# EAGLE library part MOD_CM5 (library !GPLIB_ACTIVE)
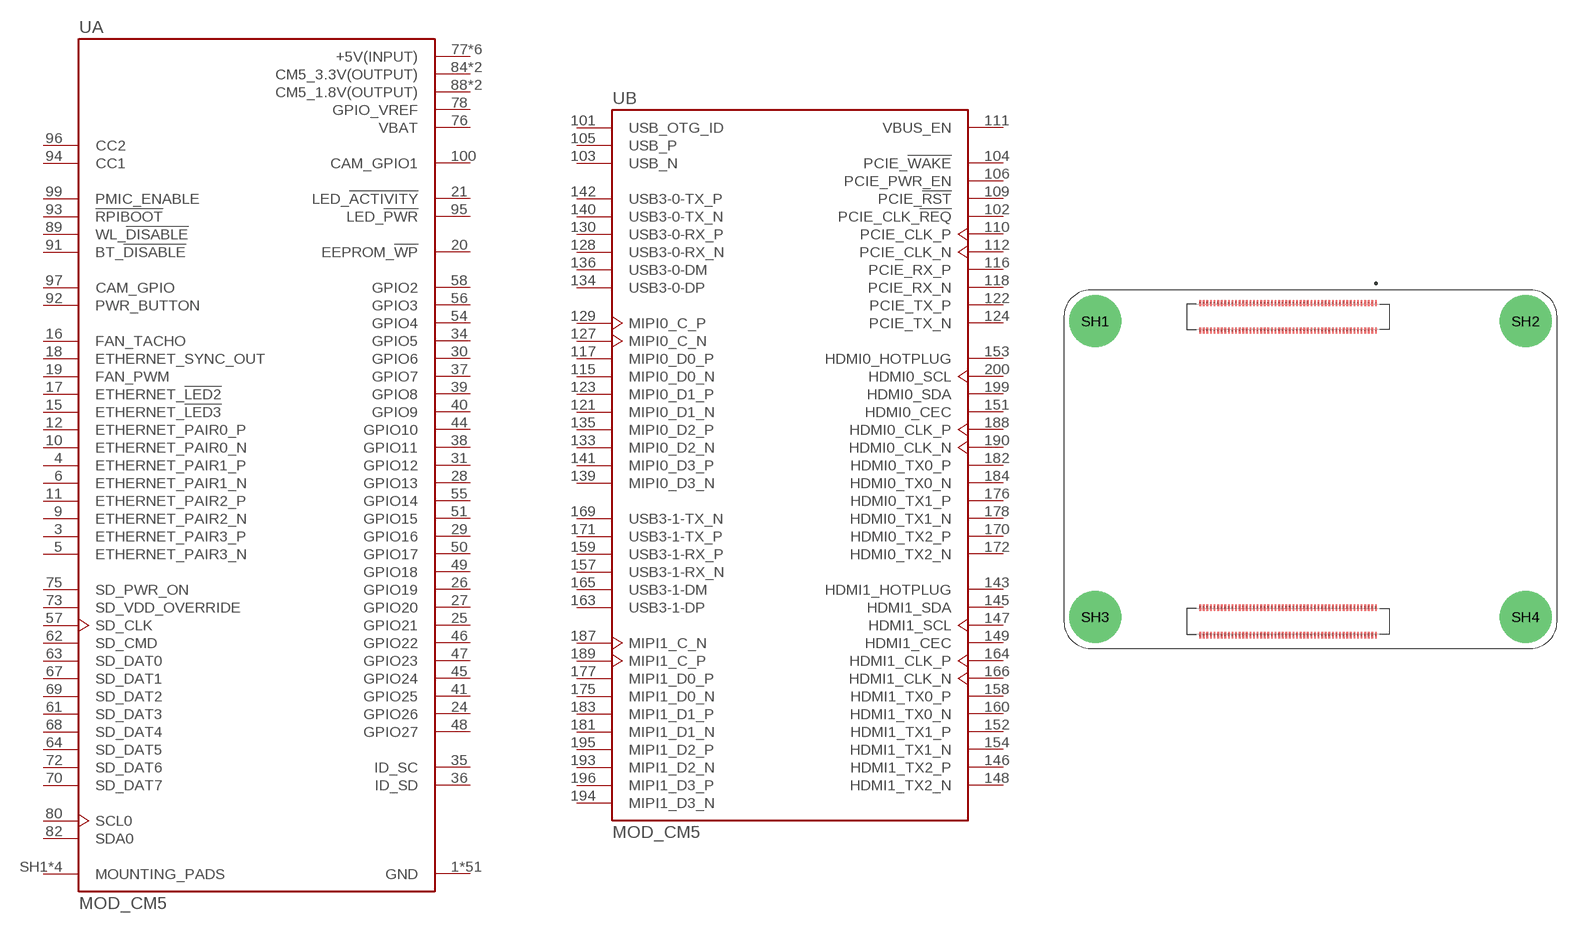
[diagram p21: symbol with the pads of MODULE_CM5108032; footprint MODULE_CM5108032]

Designator prefix U; gates A=CM5108032_CON1 B=CM5108032_CON2

## MOD_CM5  [MODULE_CM5108032]
1  A:GND  pwr
2  A:GND  pwr
3  A:ETHERNET_PAIR3_P
4  A:ETHERNET_PAIR1_P
5  A:ETHERNET_PAIR3_N
6  A:ETHERNET_PAIR1_N
7  A:GND  pwr
8  A:GND  pwr
9  A:ETHERNET_PAIR2_N
10  A:ETHERNET_PAIR0_N
11  A:ETHERNET_PAIR2_P
12  A:ETHERNET_PAIR0_P
13  A:GND  pwr
14  A:GND  pwr
15  A:ETHERNET_!LED3  out
16  A:FAN_TACHO  in
17  A:ETHERNET_!LED2  out
18  A:ETHERNET_SYNC_OUT  out
19  A:FAN_PWM  out
20  A:EEPROM_!WP
21  A:LED_!ACTIVITY
22  A:GND  pwr
23  A:GND  pwr
24  A:GPIO26
25  A:GPIO21
26  A:GPIO19
27  A:GPIO20
28  A:GPIO13
29  A:GPIO16
30  A:GPIO6
31  A:GPIO12
32  A:GND  pwr
33  A:GND  pwr
34  A:GPIO5
35  A:ID_SC
36  A:ID_SD
37  A:GPIO7
38  A:GPIO11
39  A:GPIO8
40  A:GPIO9
41  A:GPIO25
42  A:GND  pwr
43  A:GND  pwr
44  A:GPIO10
45  A:GPIO24
46  A:GPIO22
47  A:GPIO23
48  A:GPIO27
49  A:GPIO18
50  A:GPIO17
51  A:GPIO15
52  A:GND  pwr
53  A:GND  pwr
54  A:GPIO4
55  A:GPIO14
56  A:GPIO3
57  A:SD_CLK
58  A:GPIO2
59  A:GND  pwr
60  A:GND  pwr
61  A:SD_DAT3
62  A:SD_CMD  in
63  A:SD_DAT0
64  A:SD_DAT5
65  A:GND  pwr
66  A:GND  pwr
67  A:SD_DAT1
68  A:SD_DAT4
69  A:SD_DAT2
70  A:SD_DAT7
71  A:GND  pwr
72  A:SD_DAT6
73  A:SD_VDD_OVERRIDE  in
74  A:GND  pwr
75  A:SD_PWR_ON  out
76  A:VBAT  pwr
77  A:+5V(INPUT)  pwr
78  A:GPIO_VREF  pwr
79  A:+5V(INPUT)  pwr
80  A:SCL0  in
81  A:+5V(INPUT)  pwr
82  A:SDA0
83  A:+5V(INPUT)  pwr
84  A:CM5_3.3V(OUTPUT)  pwr
85  A:+5V(INPUT)  pwr
86  A:CM5_3.3V(OUTPUT)  pwr
87  A:+5V(INPUT)  pwr
88  A:CM5_1.8V(OUTPUT)  pwr
89  A:WL_!DISABLE  in
90  A:CM5_1.8V(OUTPUT)  pwr
91  A:BT_!DISABLE  in
92  A:PWR_BUTTON  in
93  A:!RPIBOOT  in
94  A:CC1
95  A:LED_!PWR  out
96  A:CC2
97  A:CAM_GPIO
98  A:GND  pwr
99  A:PMIC_ENABLE  in
100  A:CAM_GPIO1  out
101  B:USB_OTG_ID  in
102  B:PCIE_CLK_!REQ  in
103  B:USB_N
104  B:PCIE_!WAKE  in
105  B:USB_P
106  B:PCIE_PWR_EN  out
107  A:GND  pwr
108  A:GND  pwr
109  B:PCIE_!RST  out
110  B:PCIE_CLK_P  out
111  B:VBUS_EN  out
112  B:PCIE_CLK_N  out
113  A:GND  pwr
114  A:GND  pwr
115  B:MIPI0_D0_N  in
116  B:PCIE_RX_P  in
117  B:MIPI0_D0_P  in
118  B:PCIE_RX_N  in
119  A:GND  pwr
120  A:GND  pwr
121  B:MIPI0_D1_N  in
122  B:PCIE_TX_P  out
123  B:MIPI0_D1_P  in
124  B:PCIE_TX_N  out
125  A:GND  pwr
126  A:GND  pwr
127  B:MIPI0_C_N  in
128  B:USB3-0-RX_N
129  B:MIPI0_C_P  in
130  B:USB3-0-RX_P
131  A:GND  pwr
132  A:GND  pwr
133  B:MIPI0_D2_N  in
134  B:USB3-0-DP
135  B:MIPI0_D2_P  in
136  B:USB3-0-DM
137  A:GND  pwr
138  A:GND  pwr
139  B:MIPI0_D3_N  in
140  B:USB3-0-TX_N
141  B:MIPI0_D3_P  in
142  B:USB3-0-TX_P
143  B:HDMI1_HOTPLUG  in
144  A:GND  pwr
145  B:HDMI1_SDA
146  B:HDMI1_TX2_P  out
147  B:HDMI1_SCL
148  B:HDMI1_TX2_N  out
149  B:HDMI1_CEC  in
150  A:GND  pwr
151  B:HDMI0_CEC  in
152  B:HDMI1_TX1_P  out
153  B:HDMI0_HOTPLUG  in
154  B:HDMI1_TX1_N  out
155  A:GND  pwr
156  A:GND  pwr
157  B:USB3-1-RX_N
158  B:HDMI1_TX0_P  out
159  B:USB3-1-RX_P
160  B:HDMI1_TX0_N  out
161  A:GND  pwr
162  A:GND  pwr
163  B:USB3-1-DP
164  B:HDMI1_CLK_P  out
165  B:USB3-1-DM
166  B:HDMI1_CLK_N  out
167  A:GND  pwr
168  A:GND  pwr
169  B:USB3-1-TX_N
170  B:HDMI0_TX2_P  out
171  B:USB3-1-TX_P
172  B:HDMI0_TX2_N  out
173  A:GND  pwr
174  A:GND  pwr
175  B:MIPI1_D0_N  out
176  B:HDMI0_TX1_P  out
177  B:MIPI1_D0_P  out
178  B:HDMI0_TX1_N  out
179  A:GND  pwr
180  A:GND  pwr
181  B:MIPI1_D1_N  out
182  B:HDMI0_TX0_P  out
183  B:MIPI1_D1_P  out
184  B:HDMI0_TX0_N  out
185  A:GND  pwr
186  A:GND  pwr
187  B:MIPI1_C_N  out
188  B:HDMI0_CLK_P  out
189  B:MIPI1_C_P  out
190  B:HDMI0_CLK_N  out
191  A:GND  pwr
192  A:GND  pwr
193  B:MIPI1_D2_N  out
194  B:MIPI1_D3_N  out
195  B:MIPI1_D2_P  out
196  B:MIPI1_D3_P  out
197  A:GND  pwr
198  A:GND  pwr
199  B:HDMI0_SDA
200  B:HDMI0_SCL
SH1  A:MOUNTING_PADS  pas
SH2  A:MOUNTING_PADS  pas
SH3  A:MOUNTING_PADS  pas
SH4  A:MOUNTING_PADS  pas

## Footprint MODULE_CM5108032 (pad centres in mm)
smd 0.2 x 0.7: 1 7.3,18.54; 2 7.3,15.46; 3 6.9,18.54; 4 6.9,15.46; 5 6.5,18.54; 6 6.5,15.46; 7 6.1,18.54; 8 6.1,15.46; 9 5.7,18.54; 10 5.7,15.46; 11 5.3,18.54; 12 5.3,15.46; 13 4.9,18.54; 14 4.9,15.46; 15 4.5,18.54; 16 4.5,15.46; 17 4.1,18.54; 18 4.1,15.46; 19 3.7,18.54; 20 3.7,15.46; 21 3.3,18.54; 22 3.3,15.46; 23 2.9,18.54; 24 2.9,15.46; 25 2.5,18.54; 26 2.5,15.46; 27 2.1,18.54; 28 2.1,15.46; 29 1.7,18.54; 30 1.7,15.46; 31 1.3,18.54; 32 1.3,15.46; 33 0.9,18.54; 34 0.9,15.46; 35 0.5,18.54; 36 0.5,15.46; 37 0.1,18.54; 38 0.1,15.46; 39 -0.3,18.54; 40 -0.3,15.46; 41 -0.7,18.54; 42 -0.7,15.46; 43 -1.1,18.54; 44 -1.1,15.46; 45 -1.5,18.54; 46 -1.5,15.46; 47 -1.9,18.54; 48 -1.9,15.46; 49 -2.3,18.54; 50 -2.3,15.46; 51 -2.7,18.54; 52 -2.7,15.46; 53 -3.1,18.54; 54 -3.1,15.46; 55 -3.5,18.54; 56 -3.5,15.46; 57 -3.9,18.54; 58 -3.9,15.46; 59 -4.3,18.54; 60 -4.3,15.46; 61 -4.7,18.54; 62 -4.7,15.46; 63 -5.1,18.54; 64 -5.1,15.46; 65 -5.5,18.54; 66 -5.5,15.46; 67 -5.9,18.54; 68 -5.9,15.46; 69 -6.3,18.54; 70 -6.3,15.46; 71 -6.7,18.54; 72 -6.7,15.46; 73 -7.1,18.54; 74 -7.1,15.46; 75 -7.5,18.54; 76 -7.5,15.46; 77 -7.9,18.54; 78 -7.9,15.46; 79 -8.3,18.54; 80 -8.3,15.46; 81 -8.7,18.54; 82 -8.7,15.46; 83 -9.1,18.54; 84 -9.1,15.46; 85 -9.5,18.54; 86 -9.5,15.46; 87 -9.9,18.54; 88 -9.9,15.46; 89 -10.3,18.54; 90 -10.3,15.46; 91 -10.7,18.54; 92 -10.7,15.46; 93 -11.1,18.54; 94 -11.1,15.46; 95 -11.5,18.54; 96 -11.5,15.46; 97 -11.9,18.54; 98 -11.9,15.46; 99 -12.3,18.54; 100 -12.3,15.46; 101 7.3,-15.46; 102 7.3,-18.54; 103 6.9,-15.46; 104 6.9,-18.54; 105 6.5,-15.46; 106 6.5,-18.54; 107 6.1,-15.46; 108 6.1,-18.54; 109 5.7,-15.46; 110 5.7,-18.54; 111 5.3,-15.46; 112 5.3,-18.54; 113 4.9,-15.46; 114 4.9,-18.54; 115 4.5,-15.46; 116 4.5,-18.54; 117 4.1,-15.46; 118 4.1,-18.54; 119 3.7,-15.46; 120 3.7,-18.54; 121 3.3,-15.46; 122 3.3,-18.54; 123 2.9,-15.46; 124 2.9,-18.54; 125 2.5,-15.46; 126 2.5,-18.54; 127 2.1,-15.46; 128 2.1,-18.54; 129 1.7,-15.46; 130 1.7,-18.54; 131 1.3,-15.46; 132 1.3,-18.54; 133 0.9,-15.46; 134 0.9,-18.54; 135 0.5,-15.46; 136 0.5,-18.54; 137 0.1,-15.46; 138 0.1,-18.54; 139 -0.3,-15.46; 140 -0.3,-18.54; 141 -0.7,-15.46; 142 -0.7,-18.54; 143 -1.1,-15.46; 144 -1.1,-18.54; 145 -1.5,-15.46; 146 -1.5,-18.54; 147 -1.9,-15.46; 148 -1.9,-18.54; 149 -2.3,-15.46; 150 -2.3,-18.54; 151 -2.7,-15.46; 152 -2.7,-18.54; 153 -3.1,-15.46; 154 -3.1,-18.54; 155 -3.5,-15.46; 156 -3.5,-18.54; 157 -3.9,-15.46; 158 -3.9,-18.54; 159 -4.3,-15.46; 160 -4.3,-18.54; 161 -4.7,-15.46; 162 -4.7,-18.54; 163 -5.1,-15.46; 164 -5.1,-18.54; 165 -5.5,-15.46; 166 -5.5,-18.54; 167 -5.9,-15.46; 168 -5.9,-18.54; 169 -6.3,-15.46; 170 -6.3,-18.54; 171 -6.7,-15.46; 172 -6.7,-18.54; 173 -7.1,-15.46; 174 -7.1,-18.54; 175 -7.5,-15.46; 176 -7.5,-18.54; 177 -7.9,-15.46; 178 -7.9,-18.54; 179 -8.3,-15.46; 180 -8.3,-18.54; 181 -8.7,-15.46; 182 -8.7,-18.54; 183 -9.1,-15.46; 184 -9.1,-18.54; 185 -9.5,-15.46; 186 -9.5,-18.54; 187 -9.9,-15.46; 188 -9.9,-18.54; 189 -10.3,-15.46; 190 -10.3,-18.54; 191 -10.7,-15.46; 192 -10.7,-18.54; 193 -11.1,-15.46; 194 -11.1,-18.54; 195 -11.5,-15.46; 196 -11.5,-18.54; 197 -11.9,-15.46; 198 -11.9,-18.54; 199 -12.3,-15.46; 200 -12.3,-18.54
drill 2.7 pad 5.8: SH1 -24,16.5; SH2 24,16.5; SH3 -24,-16.5; SH4 24,-16.5